# EAGLE library part 1787195 (library con-phoenix-350)
DMC_1,5/20-G1F-3,5-LR_P20THR Pluggable Terminal Blocks 20 Pos 3.5mm Dbl Row Through Hole Header
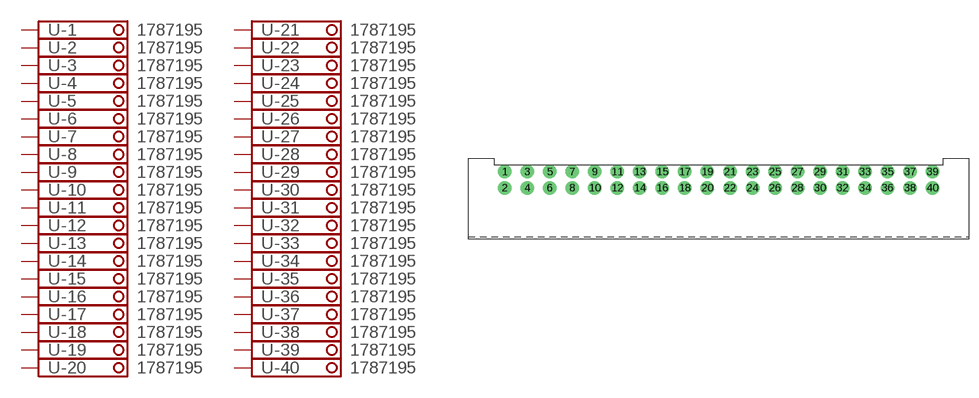
[diagram p18: symbol with the pads of 1787195; footprint 1787195]

Designator prefix -; gates -1=SCHRAUBKLEMME -2=SCHRAUBKLEMME -3=SCHRAUBKLEMME -4=SCHRAUBKLEMME -5=SCHRAUBKLEMME -6=SCHRAUBKLEMME -7=SCHRAUBKLEMME -8=SCHRAUBKLEMME -9=SCHRAUBKLEMME -10=SCHRAUBKLEMME -11=SCHRAUBKLEMME -12=SCHRAUBKLEMME -13=SCHRAUBKLEMME -14=SCHRAUBKLEMME -15=SCHRAUBKLEMME -16=SCHRAUBKLEMME -17=SCHRAUBKLEMME -18=SCHRAUBKLEMME -19=SCHRAUBKLEMME -20=SCHRAUBKLEMME -21=SCHRAUBKLEMME -22=SCHRAUBKLEMME -23=SCHRAUBKLEMME -24=SCHRAUBKLEMME -25=SCHRAUBKLEMME -26=SCHRAUBKLEMME -27=SCHRAUBKLEMME -28=SCHRAUBKLEMME -29=SCHRAUBKLEMME -30=SCHRAUBKLEMME -31=SCHRAUBKLEMME -32=SCHRAUBKLEMME -33=SCHRAUBKLEMME -34=SCHRAUBKLEMME -35=SCHRAUBKLEMME -36=SCHRAUBKLEMME -37=SCHRAUBKLEMME -38=SCHRAUBKLEMME -39=SCHRAUBKLEMME -40=SCHRAUBKLEMME

## 1787195  [1787195]
1  -1:K  pas
2  -2:K  pas
3  -3:K  pas
4  -4:K  pas
5  -5:K  pas
6  -6:K  pas
7  -7:K  pas
8  -8:K  pas
9  -9:K  pas
10  -10:K  pas
11  -11:K  pas
12  -12:K  pas
13  -13:K  pas
14  -14:K  pas
15  -15:K  pas
16  -16:K  pas
17  -17:K  pas
18  -18:K  pas
19  -19:K  pas
20  -20:K  pas
21  -21:K  pas
22  -22:K  pas
23  -23:K  pas
24  -24:K  pas
25  -25:K  pas
26  -26:K  pas
27  -27:K  pas
28  -28:K  pas
29  -29:K  pas
30  -30:K  pas
31  -31:K  pas
32  -32:K  pas
33  -33:K  pas
34  -34:K  pas
35  -35:K  pas
36  -36:K  pas
37  -37:K  pas
38  -38:K  pas
39  -39:K  pas
40  -40:K  pas

## Footprint 1787195 (pad centres in mm)
drill 1.4: 1 -33.25,4.7; 2 -33.25,2.2; 3 -29.75,4.7; 4 -29.75,2.2; 5 -26.25,4.7; 6 -26.25,2.2; 7 -22.75,4.7; 8 -22.75,2.2; 9 -19.25,4.7; 10 -19.25,2.2; 11 -15.75,4.7; 12 -15.75,2.2; 13 -12.25,4.7; 14 -12.25,2.2; 15 -8.75,4.7; 16 -8.75,2.2; 17 -5.25,4.7; 18 -5.25,2.2; 19 -1.75,4.7; 20 -1.75,2.2; 21 1.75,4.7; 22 1.75,2.2; 23 5.25,4.7; 24 5.25,2.2; 25 8.75,4.7; 26 8.75,2.2; 27 12.25,4.7; 28 12.25,2.2; 29 15.75,4.7; 30 15.75,2.2; 31 19.25,4.7; 32 19.25,2.2; 33 22.75,4.7; 34 22.75,2.2; 35 26.25,4.7; 36 26.25,2.2; 37 29.75,4.7; 38 29.75,2.2; 39 33.25,4.7; 40 33.25,2.2